# EAGLE library part XCV200_BG256 (library xilinx-xcv)
xcv200_bg256 edit this description Auto generated by make-symbol-device-package-bsdl.ulp Rev. 26 Source: xcv200_bg256.bsd
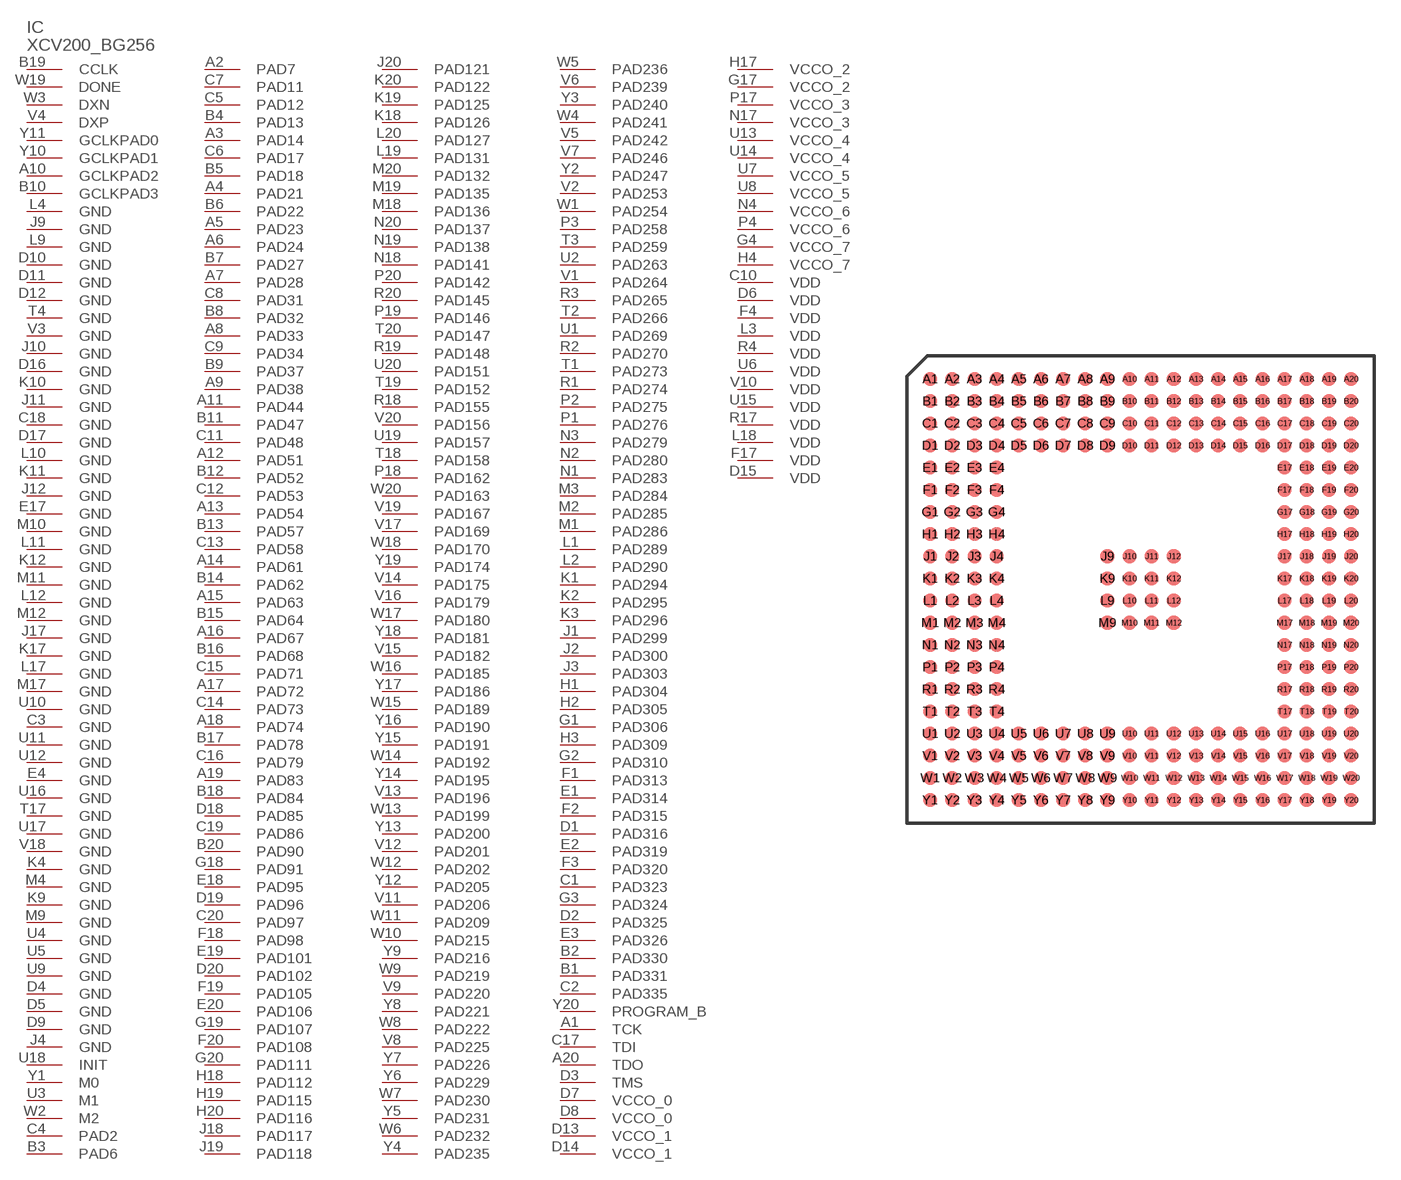
[diagram p44: symbol with the pads of BG256; footprint BG256]

Designator prefix IC

## XCV200_BG256 (OC_FARNELL: unknown; OC_NEWARK: unknown)  [BG256]
A1  TCK  in
A2  PAD7
A3  PAD14
A4  PAD21
A5  PAD23
A6  PAD24
A7  PAD28
A8  PAD33
A9  PAD38
A10  GCLKPAD2  in
A11  PAD44
A12  PAD51
A13  PAD54
A14  PAD61
A15  PAD63
A16  PAD67
A17  PAD72
A18  PAD74
A19  PAD83
A20  TDO  out
B1  PAD331
B2  PAD330
B3  PAD6
B4  PAD13
B5  PAD18
B6  PAD22
B7  PAD27
B8  PAD32
B9  PAD37
B10  GCLKPAD3  in
B11  PAD47
B12  PAD52
B13  PAD57
B14  PAD62
B15  PAD64
B16  PAD68
B17  PAD78
B18  PAD84
B19  CCLK
B20  PAD90
C1  PAD323
C2  PAD335
C3  GND  pwr
C4  PAD2
C5  PAD12
C6  PAD17
C7  PAD11
C8  PAD31
C9  PAD34
C10  VDD  pwr
C11  PAD48
C12  PAD53
C13  PAD58
C14  PAD73
C15  PAD71
C16  PAD79
C17  TDI  in
C18  GND  pwr
C19  PAD86
C20  PAD97
D1  PAD316
D2  PAD325
D3  TMS  in
D4  GND  pwr
D5  GND  pwr
D6  VDD  pwr
D7  VCCO_0  pwr
D8  VCCO_0  pwr
D9  GND  pwr
D10  GND  pwr
D11  GND  pwr
D12  GND  pwr
D13  VCCO_1  pwr
D14  VCCO_1  pwr
D15  VDD  pwr
D16  GND  pwr
D17  GND  pwr
D18  PAD85
D19  PAD96
D20  PAD102
E1  PAD314
E2  PAD319
E3  PAD326
E4  GND  pwr
E17  GND  pwr
E18  PAD95
E19  PAD101
E20  PAD106
F1  PAD313
F2  PAD315
F3  PAD320
F4  VDD  pwr
F17  VDD  pwr
F18  PAD98
F19  PAD105
F20  PAD108
G1  PAD306
G2  PAD310
G3  PAD324
G4  VCCO_7  pwr
G17  VCCO_2  pwr
G18  PAD91
G19  PAD107
G20  PAD111
H1  PAD304
H2  PAD305
H3  PAD309
H4  VCCO_7  pwr
H17  VCCO_2  pwr
H18  PAD112
H19  PAD115
H20  PAD116
J1  PAD299
J2  PAD300
J3  PAD303
J4  GND  pwr
J9  GND  pwr
J10  GND  pwr
J11  GND  pwr
J12  GND  pwr
J17  GND  pwr
J18  PAD117
J19  PAD118
J20  PAD121
K1  PAD294
K2  PAD295
K3  PAD296
K4  GND  pwr
K9  GND  pwr
K10  GND  pwr
K11  GND  pwr
K12  GND  pwr
K17  GND  pwr
K18  PAD126
K19  PAD125
K20  PAD122
L1  PAD289
L2  PAD290
L3  VDD  pwr
L4  GND  pwr
L9  GND  pwr
L10  GND  pwr
L11  GND  pwr
L12  GND  pwr
L17  GND  pwr
L18  VDD  pwr
L19  PAD131
L20  PAD127
M1  PAD286
M2  PAD285
M3  PAD284
M4  GND  pwr
M9  GND  pwr
M10  GND  pwr
M11  GND  pwr
M12  GND  pwr
M17  GND  pwr
M18  PAD136
M19  PAD135
M20  PAD132
N1  PAD283
N2  PAD280
N3  PAD279
N4  VCCO_6  pwr
N17  VCCO_3  pwr
N18  PAD141
N19  PAD138
N20  PAD137
P1  PAD276
P2  PAD275
P3  PAD258
P4  VCCO_6  pwr
P17  VCCO_3  pwr
P18  PAD162
P19  PAD146
P20  PAD142
R1  PAD274
R2  PAD270
R3  PAD265
R4  VDD  pwr
R17  VDD  pwr
R18  PAD155
R19  PAD148
R20  PAD145
T1  PAD273
T2  PAD266
T3  PAD259
T4  GND  pwr
T17  GND  pwr
T18  PAD158
T19  PAD152
T20  PAD147
U1  PAD269
U2  PAD263
U3  M1  in
U4  GND  pwr
U5  GND  pwr
U6  VDD  pwr
U7  VCCO_5  pwr
U8  VCCO_5  pwr
U9  GND  pwr
U10  GND  pwr
U11  GND  pwr
U12  GND  pwr
U13  VCCO_4  pwr
U14  VCCO_4  pwr
U15  VDD  pwr
U16  GND  pwr
U17  GND  pwr
U18  INIT
U19  PAD157
U20  PAD151
V1  PAD264
V2  PAD253
V3  GND  pwr
V4  DXP  pas
V5  PAD242
V6  PAD239
V7  PAD246
V8  PAD225
V9  PAD220
V10  VDD  pwr
V11  PAD206
V12  PAD201
V13  PAD196
V14  PAD175
V15  PAD182
V16  PAD179
V17  PAD169
V18  GND  pwr
V19  PAD167
V20  PAD156
W1  PAD254
W2  M2  in
W3  DXN  pas
W4  PAD241
W5  PAD236
W6  PAD232
W7  PAD230
W8  PAD222
W9  PAD219
W10  PAD215
W11  PAD209
W12  PAD202
W13  PAD199
W14  PAD192
W15  PAD189
W16  PAD185
W17  PAD180
W18  PAD170
W19  DONE
W20  PAD163
Y1  M0  in
Y2  PAD247
Y3  PAD240
Y4  PAD235
Y5  PAD231
Y6  PAD229
Y7  PAD226
Y8  PAD221
Y9  PAD216
Y10  GCLKPAD1  in
Y11  GCLKPAD0  in
Y12  PAD205
Y13  PAD200
Y14  PAD195
Y15  PAD191
Y16  PAD190
Y17  PAD186
Y18  PAD181
Y19  PAD174
Y20  PROGRAM_B  in

## Footprint BG256 (pad centres in mm)
xcv100_bg256_1532 edit this description Auto generated by make-symbol-device-package-bsdl.ulp Rev. 25 Source: xcv100_bg256_1532.bsd
smd 0.8 x 0.8: A1 -12.065,12.065; A2 -10.795,12.065; A3 -9.525,12.065; A4 -8.255,12.065; A5 -6.985,12.065; A6 -5.715,12.065; A7 -4.445,12.065; A8 -3.175,12.065; A9 -1.905,12.065; A10 -0.635,12.065; A11 0.635,12.065; A12 1.905,12.065; A13 3.175,12.065; A14 4.445,12.065; A15 5.715,12.065; A16 6.985,12.065; A17 8.255,12.065; A18 9.525,12.065; A19 10.795,12.065; A20 12.065,12.065; B1 -12.065,10.795; B2 -10.795,10.795; B3 -9.525,10.795; B4 -8.255,10.795; B5 -6.985,10.795; B6 -5.715,10.795; B7 -4.445,10.795; B8 -3.175,10.795; B9 -1.905,10.795; B10 -0.635,10.795; B11 0.635,10.795; B12 1.905,10.795; B13 3.175,10.795; B14 4.445,10.795; B15 5.715,10.795; B16 6.985,10.795; B17 8.255,10.795; B18 9.525,10.795; B19 10.795,10.795; B20 12.065,10.795; C1 -12.065,9.525; C2 -10.795,9.525; C3 -9.525,9.525; C4 -8.255,9.525; C5 -6.985,9.525; C6 -5.715,9.525; C7 -4.445,9.525; C8 -3.175,9.525; C9 -1.905,9.525; C10 -0.635,9.525; C11 0.635,9.525; C12 1.905,9.525; C13 3.175,9.525; C14 4.445,9.525; C15 5.715,9.525; C16 6.985,9.525; C17 8.255,9.525; C18 9.525,9.525; C19 10.795,9.525; C20 12.065,9.525; D1 -12.065,8.255; D2 -10.795,8.255; D3 -9.525,8.255; D4 -8.255,8.255; D5 -6.985,8.255; D6 -5.715,8.255; D7 -4.445,8.255; D8 -3.175,8.255; D9 -1.905,8.255; D10 -0.635,8.255; D11 0.635,8.255; D12 1.905,8.255; D13 3.175,8.255; D14 4.445,8.255; D15 5.715,8.255; D16 6.985,8.255; D17 8.255,8.255; D18 9.525,8.255; D19 10.795,8.255; D20 12.065,8.255; E1 -12.065,6.985; E2 -10.795,6.985; E3 -9.525,6.985; E4 -8.255,6.985; E17 8.255,6.985; E18 9.525,6.985; E19 10.795,6.985; E20 12.065,6.985; F1 -12.065,5.715; F2 -10.795,5.715; F3 -9.525,5.715; F4 -8.255,5.715; F17 8.255,5.715; F18 9.525,5.715; F19 10.795,5.715; F20 12.065,5.715; G1 -12.065,4.445; G2 -10.795,4.445; G3 -9.525,4.445; G4 -8.255,4.445; G17 8.255,4.445; G18 9.525,4.445; G19 10.795,4.445; G20 12.065,4.445; H1 -12.065,3.175; H2 -10.795,3.175; H3 -9.525,3.175; H4 -8.255,3.175; H17 8.255,3.175; H18 9.525,3.175; H19 10.795,3.175; H20 12.065,3.175; J1 -12.065,1.905; J2 -10.795,1.905; J3 -9.525,1.905; J4 -8.255,1.905; J9 -1.905,1.905; J10 -0.635,1.905; J11 0.635,1.905; J12 1.905,1.905; J17 8.255,1.905; J18 9.525,1.905; J19 10.795,1.905; J20 12.065,1.905; K1 -12.065,0.635; K2 -10.795,0.635; K3 -9.525,0.635; K4 -8.255,0.635; K9 -1.905,0.635; K10 -0.635,0.635; K11 0.635,0.635; K12 1.905,0.635; K17 8.255,0.635; K18 9.525,0.635; K19 10.795,0.635; K20 12.065,0.635; L1 -12.065,-0.635; L2 -10.795,-0.635; L3 -9.525,-0.635; L4 -8.255,-0.635; L9 -1.905,-0.635; L10 -0.635,-0.635; L11 0.635,-0.635; L12 1.905,-0.635; L17 8.255,-0.635; L18 9.525,-0.635; L19 10.795,-0.635; L20 12.065,-0.635; M1 -12.065,-1.905; M2 -10.795,-1.905; M3 -9.525,-1.905; M4 -8.255,-1.905; M9 -1.905,-1.905; M10 -0.635,-1.905; M11 0.635,-1.905; M12 1.905,-1.905; M17 8.255,-1.905; M18 9.525,-1.905; M19 10.795,-1.905; M20 12.065,-1.905; N1 -12.065,-3.175; N2 -10.795,-3.175; N3 -9.525,-3.175; N4 -8.255,-3.175; N17 8.255,-3.175; N18 9.525,-3.175; N19 10.795,-3.175; N20 12.065,-3.175; P1 -12.065,-4.445; P2 -10.795,-4.445; P3 -9.525,-4.445; P4 -8.255,-4.445; P17 8.255,-4.445; P18 9.525,-4.445; P19 10.795,-4.445; P20 12.065,-4.445; R1 -12.065,-5.715; R2 -10.795,-5.715; R3 -9.525,-5.715; R4 -8.255,-5.715; R17 8.255,-5.715; R18 9.525,-5.715; R19 10.795,-5.715; R20 12.065,-5.715; T1 -12.065,-6.985; T2 -10.795,-6.985; T3 -9.525,-6.985; T4 -8.255,-6.985; T17 8.255,-6.985; T18 9.525,-6.985; T19 10.795,-6.985; T20 12.065,-6.985; U1 -12.065,-8.255; U2 -10.795,-8.255; U3 -9.525,-8.255; U4 -8.255,-8.255; U5 -6.985,-8.255; U6 -5.715,-8.255; U7 -4.445,-8.255; U8 -3.175,-8.255; U9 -1.905,-8.255; U10 -0.635,-8.255; U11 0.635,-8.255; U12 1.905,-8.255; U13 3.175,-8.255; U14 4.445,-8.255; U15 5.715,-8.255; U16 6.985,-8.255; U17 8.255,-8.255; U18 9.525,-8.255; U19 10.795,-8.255; U20 12.065,-8.255; V1 -12.065,-9.525; V2 -10.795,-9.525; V3 -9.525,-9.525; V4 -8.255,-9.525; V5 -6.985,-9.525; V6 -5.715,-9.525; V7 -4.445,-9.525; V8 -3.175,-9.525; V9 -1.905,-9.525; V10 -0.635,-9.525; V11 0.635,-9.525; V12 1.905,-9.525; V13 3.175,-9.525; V14 4.445,-9.525; V15 5.715,-9.525; V16 6.985,-9.525; V17 8.255,-9.525; V18 9.525,-9.525; V19 10.795,-9.525; V20 12.065,-9.525; W1 -12.065,-10.795; W2 -10.795,-10.795; W3 -9.525,-10.795; W4 -8.255,-10.795; W5 -6.985,-10.795; W6 -5.715,-10.795; W7 -4.445,-10.795; W8 -3.175,-10.795; W9 -1.905,-10.795; W10 -0.635,-10.795; W11 0.635,-10.795; W12 1.905,-10.795; W13 3.175,-10.795; W14 4.445,-10.795; W15 5.715,-10.795; W16 6.985,-10.795; W17 8.255,-10.795; W18 9.525,-10.795; W19 10.795,-10.795; W20 12.065,-10.795; Y1 -12.065,-12.065; Y2 -10.795,-12.065; Y3 -9.525,-12.065; Y4 -8.255,-12.065; Y5 -6.985,-12.065; Y6 -5.715,-12.065; Y7 -4.445,-12.065; Y8 -3.175,-12.065; Y9 -1.905,-12.065; Y10 -0.635,-12.065; Y11 0.635,-12.065; Y12 1.905,-12.065; Y13 3.175,-12.065; Y14 4.445,-12.065; Y15 5.715,-12.065; Y16 6.985,-12.065; Y17 8.255,-12.065; Y18 9.525,-12.065; Y19 10.795,-12.065; Y20 12.065,-12.065